# EAGLE library part 11A009-1702-00 (library Domino)
Single Port RJ45 Modular Jack with Integrated Magnetics, no LED, 2 Shield Tabs
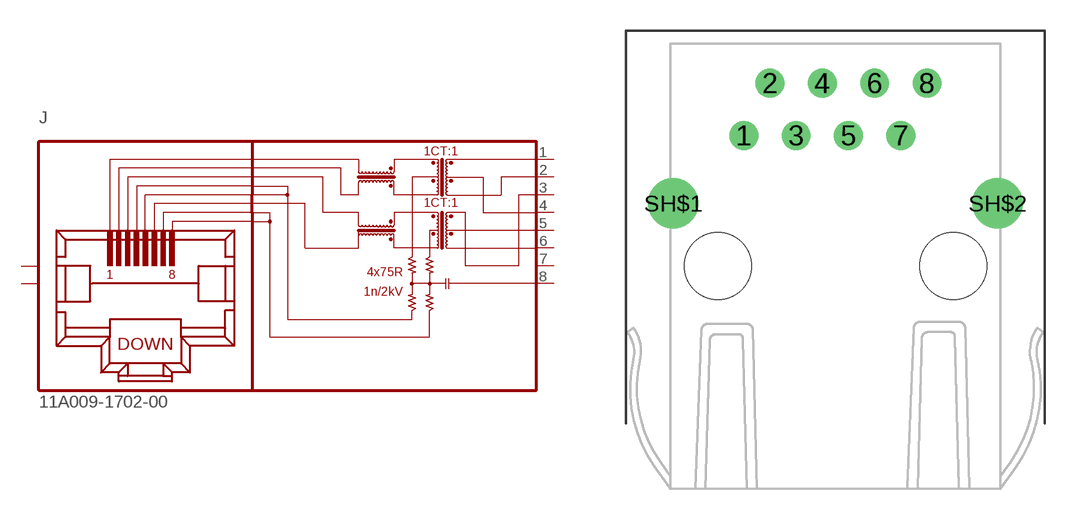
[diagram p37: symbol with the pads of 11A009-1702-00; footprint 11A009-1702-00]

Designator prefix J

## 11A009-1702-00  [11A009-1702-00]
1  P1  pas
2  P2  pas
3  P3  pas
4  P4  pas
5  P5  pas
6  P6  pas
7  P7  nc
8  P8  pwr
SH$1  SHIELD  pwr
SH$2  SHIELD  pwr

## Footprint 11A009-1702-00 (pad centres in mm)
Single Port RJ45 Modular Jack with Integrated Magnetics, no LED, 2 Shield Tabs
drill 0.89: 1 -4.445,6.35; 2 -3.175,8.89; 3 -1.905,6.35; 4 -0.635,8.89; 5 0.635,6.35; 6 1.905,8.89; 7 3.175,6.35; 8 4.445,8.89
drill 1.63: SH$1 -7.874,3.048; SH$2 7.874,3.048
hole 3.25 at 5.715,0
hole 3.25 at -5.715,0